# Altium schematic symbol library interfaces.SchLib: 4 symbols
Pins are listed as number, name and electrical type; pins without a type are passive.

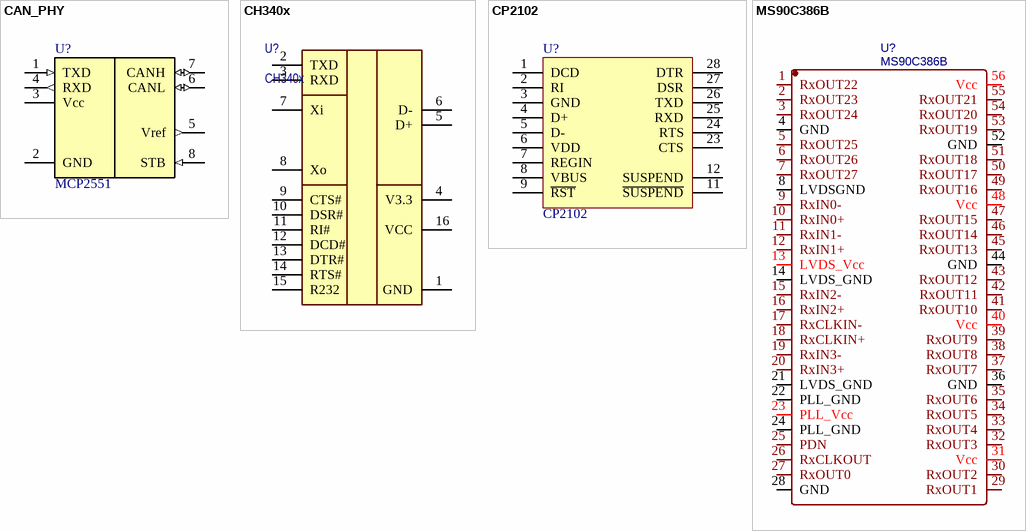
[diagram p0: symbols CAN_PHY to MS90C386B]

## CAN_PHY
designator U?, comment MCP2551
CAN PHY
footprint SO-8 (Small Outline; 8 Leads; Body Width 3.9 mm; Pitch 1.27 mm)
pins: 1 TXD (in), 2 GND (power), 3 Vcc (power), 4 RXD (out), 5 Vref (out), 6 CANL (io), 7 CANH (io), 8 STB (in)

## CH340x
designator U?
UART-USB
footprint SO-16
pins: 1 GND, 2 TXD, 3 RXD, 4 V3.3, 5 D+, 6 D-, 7 Xi, 8 Xo, 9 CTS#, 10 DSR#, 11 RI#, 12 DCD#, 13 DTR#, 14 RTS#, 15 R232, 16 VCC

## CP2102
designator U?
UART-USB; Order: CP2102; LCSC Part #: C6568
footprint QFN-28_CP2102 (Body 5,00x5,00mm, Pitch 0,50mm)
pins: 1 DCD, 2 RI, 3 GND, 4 D+, 5 D-, 6 VDD, 7 REGIN, 8 VBUS, 9 ~{RST}, 11 ~{SUSPEND}, 12 SUSPEND, 23 CTS, 24 RTS, 25 RXD, 26 TXD, 27 DSR, 28 DTR

## MS90C386B
designator U?
LVDS tranceiver
footprint TSSOP-56
pins: 1 RxOUT22, 2 RxOUT23, 3 RxOUT24, 4 GND, 5 RxOUT25, 6 RxOUT26, 7 RxOUT27, 8 LVDSGND, 9 RxIN0-, 10 RxIN0+, 11 RxIN1-, 12 RxIN1+, 13 LVDS_Vcc, 14 LVDS_GND, 15 RxIN2-, 16 RxIN2+, 17 RxCLKIN-, 18 RxCLKIN+, 19 RxIN3-, 20 RxIN3+, 21 LVDS_GND, 22 PLL_GND, 23 PLL_Vcc, 24 PLL_GND, 25 PDN, 26 RxCLKOUT, 27 RxOUT0, 28 GND, 29 RxOUT1, 30 RxOUT2, 31 Vcc, 32 RxOUT3, 33 RxOUT4, 34 RxOUT5, 35 RxOUT6, 36 GND, 37 RxOUT7, 38 RxOUT8, 39 RxOUT9, 40 Vcc, 41 RxOUT10, 42 RxOUT11, 43 RxOUT12, 44 GND, 45 RxOUT13, 46 RxOUT14, 47 RxOUT15, 48 Vcc, 49 RxOUT16, 50 RxOUT17, 51 RxOUT18, 52 GND, 53 RxOUT19, 54 RxOUT20, 55 RxOUT21, 56 Vcc